# Altium schematic symbol library aistlab.SchLib: 2 symbols
Pins are listed as number, name and electrical type; pins without a type are passive.

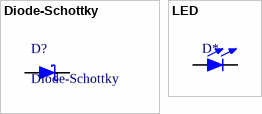
[diagram p0: symbols Diode-Schottky to LED]

## Diode-Schottky
designator D?
footprint Diode-Schottky (Molded Diode, 2-Leads, Body 4.25x2.67mm, IPC Medium Density)
pins: 1, 2

## LED
designator D*  (value not drawn)
footprint LED_0603 (Chip Diode, 2-Leads, Body 1.60x0.80mm, IPC Medium Density)
footprint LED_0805 (Chip LED  Body 2.0x1.2mm, IPC Medium Density)
pins: 1, 2